# Altium schematic symbol library RK73B1ETTP103J.SchLib: 1 symbol
Pins are listed as number, name and electrical type; pins without a type are passive.

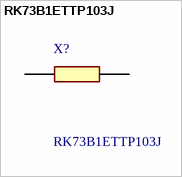
[diagram p0: symbol RK73B1ETTP103J]

## RK73B1ETTP103J
designator X?
Thick Film Resistors - SMD 1/16watts 10Kohms 5%; Manufacturer_Name: KOA Speer; Geometry.Height: 0.4mm; TTI Part Number: *; TTI Price/Stock: *; Manufacturer_Part_Number: RK73B1ETTP103J; Datasheet Link: http://www.koaspeer.com/catimages/Products/RK73-RT/RK73-RT.pdf
footprint RESC1005X40N
pins: 1, 2